# EAGLE library part IL300 (library vishay)
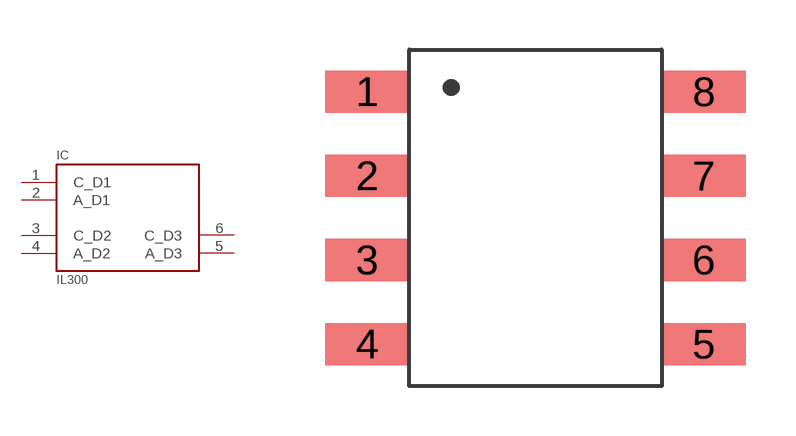
[diagram p0: symbol with the pads of SMD-8; footprint SMD-8]

Designator prefix IC

## IL300  [SMD-8]
1  C_D1
2  A_D1
3  C_D2
4  A_D2
5  A_D3
6  C_D3

## Footprint SMD-8 (pad centres in mm)
smd 2.54 x 1.27: 1 -5.08,3.81; 2 -5.08,1.27; 3 -5.08,-1.27; 4 -5.08,-3.81; 5 5.08,-3.81; 6 5.08,-1.27; 7 5.08,1.27; 8 5.08,3.81